# Altium footprint library DO216-AA.PcbLib: 1 footprints
Each footprint in its own frame and in the unit in brackets; x right, y up, seen from the top. Pads: shape width x height; smd on the part's side, far side on the other; paste and mask are expansions set on the pad; w line width, h text height; cw(c..) or ccw(c..) is an arc to the next point about the centre after c.
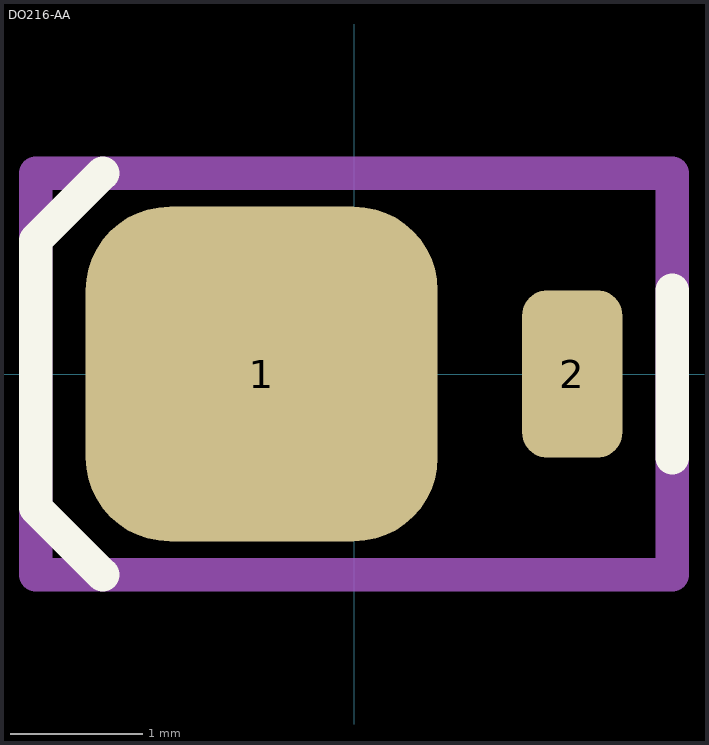
[diagram p0: the footprint, top view; thin cyan lines are the x and y axes]

## DO216-AA [mm] "Powermite 1 (DO216-AA)"
height 1.14
pads (2):
  rrect50% 2.67x2.54 smd: 1(-0.7,0)
  rrect50% 0.76x1.27 smd: 2(1.655,0)
Top Overlay:
  lines w0.254: -1.905,-1.524 -2.413,-1.016 -2.413,1.016 -1.905,1.524 ; 2.413,-0.635 2.413,0.635
Mechanical 15:
  lines w0.254: -2.413,-1.524 2.413,-1.524 2.413,1.524 -2.413,1.524 -2.413,-1.524
3D body: height 1.02, standoff 0, extent -1.88,-0.955 1.88,0.955